# Altium integrated library Linear Technology Power Management PMIC Multifunction.IntLib: 360 symbols (part 41 of 42)
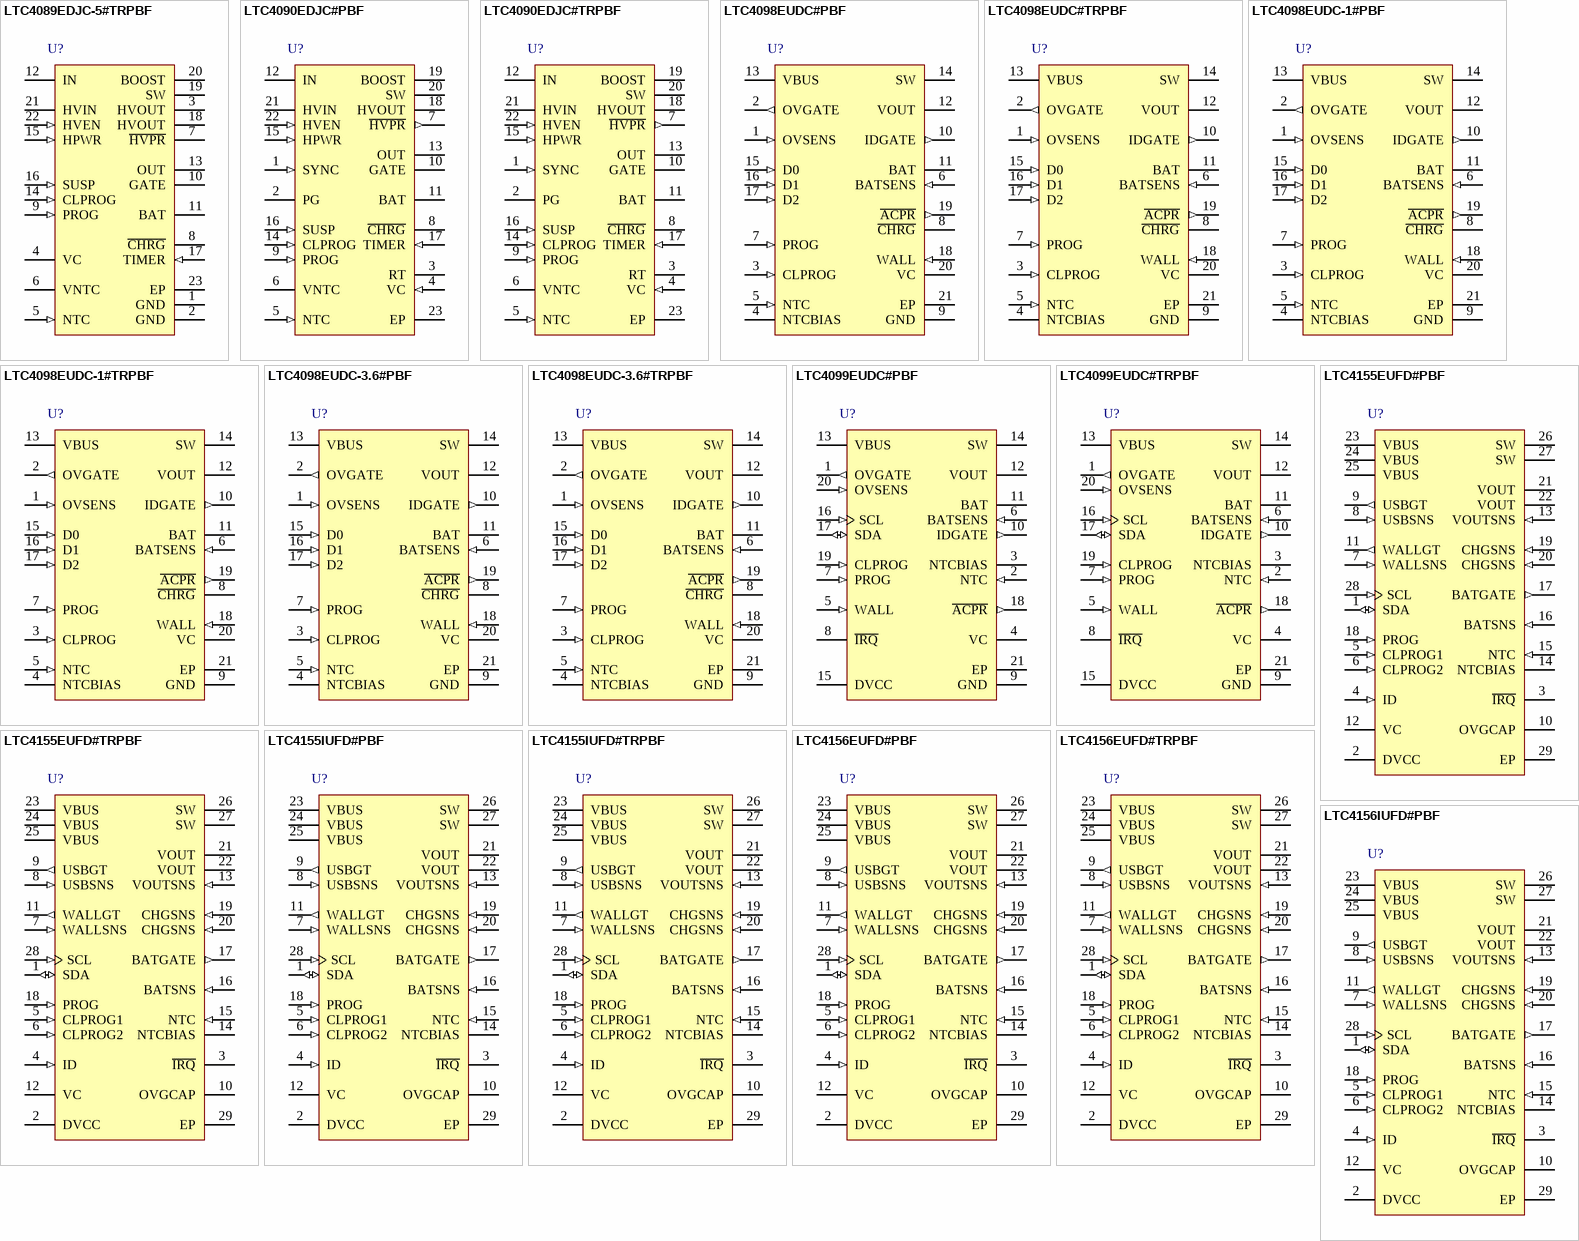
[diagram p58: symbols LTC4089EDJC-5#TRPBF to LTC4156IUFD#PBF]

## LTC4155IUFD#TRPBF
designator U?
Dual Input Power Manager / 3.5 A Li-Ion Battery Charger with I2C Control and USB OTG, 4.35 to 5.5 V Vin, 28-pin QFN (UFD-28), -40 to 125 degC, Pb-Free, Tape and Reel; Manufacturer: Linear Technology; PartNumber: LTC4155IUFD#TRPBF; Number of Cells: 1; Number of Outputs: 2; Vin Max(V): 5.5; Vin Min(V): 4.35; DatasheetVersion: Rev. C; PackageVersion: Rev. B, 06/2010; PackageReference: UFD-28; PackageDescription: 28-Pin Plastic QFN, Body 5 x 4 mm, Pitch 0.5 mm; Supplier 1: Digi-Key; Supplier Part Number 1: LTC4155IUFD#TRPBF-ND; Packing: Tape and Reel; RoHS: TRUE; Mounting Technology: Surface Mount; Code_JEDEC: MO-220; ComponentLink1Description: Manufacturer URL; ComponentLink1URL: http://www.linear.com/; ComponentLink2Description: Datasheet; ComponentLink2URL: http://cds.linear.com/docs/en/datasheet/4155fc.pdf; ComponentLink3Description: Package Specification; ComponentLink3URL: http://cds.linear.com/docs/en/packaging/QFN_28_05-08-1712.pdf
footprint LT-UFD-28_N (QFN, 28-Leads, Body 5.1x4.1mm, Pitch 0.5mm, Thermal Pad 3.65x2.65mm, IPC Medium Density)
footprint LT-UFD-28_L (QFN, 28-Leads, Body 5.1x4.1mm, Pitch 0.5mm, Thermal Pad 3.65x2.65mm, IPC High Density)
footprint LT-UFD-28_M (QFN, 28-Leads, Body 5.1x4.1mm, Pitch 0.5mm, Thermal Pad 3.65x2.65mm, IPC Low Density)
pins: 1 SDA (io) "Data Input/Output for the I2C Serial Port. The I2C input levels are scaled with respect to DVCC for I2C compliance.", 2 DVCC (power) "Logic Supply for the I2C Serial Port. DVCC sets the reference level of the SDA and SCL pins for I2C compliance. It should be connected to the same power supply used to power the I2C pull-up resistors.", 3 ~{IRQ} (oc) "Open-Drain Interrupt Output. The I\R\Q\ pin can be used to generate an interrupt due to a variety of maskable status change events within the LTC4155.", 4 ID (in) "USB A-Device Detection Pin. When wired to a mini- or micro-USB connector, the ID pin detects when the “A” side of a mini or micro-USB cable is connected to the product. If the ID pin is pulled down, and (See Datasheet)", 5 CLPROG1 (in) "Primary VBUS Current Limit Programming Pin. A resistor from CLPROG1 to ground determines the upper limit of the current drawn from the VBUS pin when CLPROG1 is selected. A precise measure of VBUS current, hCLPROG1 -1, is (See Datasheet)", 6 CLPROG2 (in) "Secondary VBUS Current Limit Program Pin. CLPROG2 controls the VBUS current limit when either selected via I2C command or when CLPROG1 and CLPROG2 are shorted together. When selected, a resistor from CLPROG2 to ground (See Datasheet)", 7 WALLSNS (in) "Highest Priority Multiplexer Input and Overvoltage Protection Sense Input. WALLSNS should be connected through a 3.6k resistor to a high priority input power connector and one drain of two source-connected N-channel MOSFET (See Datasheet)", 8 USBSNS (in) "Lowest Priority Multiplexer Input and Overvoltage Protection Sense Input. USBSNS should be connected through a 3.6k resistor to a low priority input power connector and one drain of two source-connected N-channel MOSFET pass (See Datasheet)", 9 USBGT (out) "Overvoltage Protection and Priority Multiplexer Gate Output. Connect USBGT to the gate pins of two source-connected external N-channel MOSFET pass transistors. One drain of the transistors should be connected to VBUS and the (See Datasheet)", 10 OVGCAP "Overvoltage Protection Capacitor Output. A 0.1uF capacitor should be connected from OVGCAP to GND. OVGCAP is used to store charge so that it can be rapidly moved to WALLGT or USBGT. This feature provides faster power (See Datasheet)", 11 WALLGT (out) "Overvoltage Protection and Priority Multiplexer Gate Output. Connect WALLGT to the gate pins of two source-connected external N-channel MOSFET pass transistors. One drain of the transistors should be connected to VBUS and (See Datasheet)", 12 VC "Compensation Pin. A 0.047uF ceramic capacitor on this pin compensates the switching regulator control loops.", 13 VOUTSNS (in) "Output Voltage Sense Input. Connecting VOUTSNS directly to the VOUT bypass capacitor ensures that VOUT regulates at the correct level.", 14 NTCBIAS "NTC Thermistor Bias Output. Connect a bias resistor between NTCBIAS and NTC, and a thermistor between NTC and GND. The value of the bias resistor should usually be equal to the nominal value of the thermistor.", 15 NTC (in) "Input to the Negative Temperature Coefficient Thermistor Monitoring Circuit. The NTC pin connects to a negative temperature coefficient thermistor, which is typically copackaged with the battery, to determine if the battery (See Datasheet)", 16 BATSNS (in) "Battery Voltage Sense Input. For proper operation, this pin must always be connected to the battery. For fastest charging, connect BATSNS physically close to the Lithium-Ion cell’s positive terminal. Depending upo(See Datasheet)", 17 BATGATE (out) "Battery Charger and Ideal Diode Amplifier Control Output. This pin controls the gate of an external P-channel MOSFET transistor used to charge the Lithium-Ion cell and to provide power to VOUT when the system load exceeds (See Datasheet)", 18 PROG (in) "Charge Current Program and Monitor Pin. A resistor from PROG to GND programs the maximum battery charge rate. The LTC4155 features I2C programmability enabling software selection of fifteen charge currents that are inversely (See Datasheet)", 19 CHGSNS (in) "Battery Charger Current Sense Pin. An internal current sense resistor between VOUT and CHGSNS monitors battery charge current. CHGSNS should be connected to the source of an external P-channel MOSFET transistor.", 20 CHGSNS (in) "Battery Charger Current Sense Pin. An internal current sense resistor between VOUT and CHGSNS monitors battery charge current. CHGSNS should be connected to the source of an external P-channel MOSFET transistor.", 21 VOUT (power) "Output Voltage of the Switching PowerPath Controller and Input Voltage of the Battery Charging System. The majority of the portable product should be powered from VOUT. The LTC4155 will partition the available power between (See Datasheet)", 22 VOUT (power) "Output Voltage of the Switching PowerPath Controller and Input Voltage of the Battery Charging System. The majority of the portable product should be powered from VOUT. The LTC4155 will partition the available power between (See Datasheet)", 23 VBUS (power) "Input Voltage for the PowerPath Step-Down Switching Regulator and Output Voltage for the USB On-The-Go Step-Up Switching Regulator. VBUS may be connected to the USB port of a computer or a DC output wall adapter or to one or (See Datasheet)", 24 VBUS (power) "Input Voltage for the PowerPath Step-Down Switching Regulator and Output Voltage for the USB On-The-Go Step-Up Switching Regulator. VBUS may be connected to the USB port of a computer or a DC output wall adapter or to one or (See Datasheet)", 25 VBUS (power) "Input Voltage for the PowerPath Step-Down Switching Regulator and Output Voltage for the USB On-The-Go Step-Up Switching Regulator. VBUS may be connected to the USB port of a computer or a DC output wall adapter or to one or (See Datasheet)", 26 SW (power) "Switching Regulator Power Transmission Pin. The SW pin delivers power from VBUS to VOUT via the step-down switching regulator and from VOUT to VBUS via the step-up switching regulator. A 1uH inductor should be connected from (See Datasheet)", 27 SW (power) "Switching Regulator Power Transmission Pin. The SW pin delivers power from VBUS to VOUT via the step-down switching regulator and from VOUT to VBUS via the step-up switching regulator. A 1uH inductor should be connected from (See Datasheet)", 28 SCL (in) "Clock Input for the I2C Serial Port. The I2C input levels are scaled with respect to DVCC for I2C compliance.", 29 EP (power) "Exposed pad must be soldered to the PCB to provide a low electrical and thermal impedance connection to the printed circuit board’s ground. A continuous ground plane on the second layer of a multilayer printed circui(See Datasheet)"

## LTC4156EUFD#PBF
designator U?
Dual-Input Power Manager / 3.5 A LiFePO4 Battery Charger with I2C Control and USB OTG, 4.35 to 5.5 V Vin, 28-pin QFN (UFD-28), -40 to 125 degC, Pb-Free; Manufacturer: Linear Technology; PartNumber: LTC4156EUFD#PBF; Number of Cells: 1; Vin Max(V): 5.5; Vin Min(V): 4.35; PackageVersion: Rev. B, 06/2010; PackageReference: UFD-28; PackageDescription: 28-Pin Plastic QFN, Body 5 x 4 mm, Pitch 0.5 mm; Supplier 1: Digi-Key; Supplier Part Number 1: LTC4156EUFD#PBF-ND; Supplier 2: Farnell; Supplier Part Number 2: 2097962; Supplier 3: Newark; Supplier Part Number 3: 87T9233; Number of Outputs: 1; RoHS: TRUE; Mounting Technology: Surface Mount; Code_JEDEC: MO-220; ComponentLink1Description: Manufacturer URL; ComponentLink1URL: http://www.linear.com/; ComponentLink2Description: Datasheet; ComponentLink2URL: http://cds.linear.com/docs/en/datasheet/4156f.pdf; ComponentLink3Description: Package Specification; ComponentLink3URL: http://cds.linear.com/docs/en/packaging/QFN_28_05-08-1712.pdf
footprint LT-UFD-28_N (QFN, 28-Leads, Body 5.1x4.1mm, Pitch 0.5mm, Thermal Pad 3.65x2.65mm, IPC Medium Density)
footprint LT-UFD-28_L (QFN, 28-Leads, Body 5.1x4.1mm, Pitch 0.5mm, Thermal Pad 3.65x2.65mm, IPC High Density)
footprint LT-UFD-28_M (QFN, 28-Leads, Body 5.1x4.1mm, Pitch 0.5mm, Thermal Pad 3.65x2.65mm, IPC Low Density)
pins: 1 SDA (io) "Data Input/Output for the I2C Serial Port. The I2C input levels are scaled with respect to DVCC for I2C compliance.", 2 DVCC (power) "Logic Supply for the I2C Serial Port.", 3 ~{IRQ} (oc) "Open-Drain Interrupt Output. The I\R\Q\ pin can be used to generate an interrupt due to a variety of maskable status change events within the LTC4156.", 4 ID (in) "USB A-Device Detection Pin.", 5 CLPROG1 (in) "Primary VBUS Current Limit Programming Pin.", 6 CLPROG2 (in) "Secondary VBUS Current Limit Program Pin.", 7 WALLSNS (in) "Highest Priority Multiplexer Input and Overvoltage Protection Sense Input.", 8 USBSNS (in) "Lowest Priority Multiplexer Input and Overvoltage Protection Sense Input.", 9 USBGT (out) "Overvoltage Protection and Priority Multiplexer Gate Output.", 10 OVGCAP "Overvoltage Protection Capacitor Output.", 11 WALLGT (out) "Overvoltage Protection and Priority Multiplexer Gate Output.", 12 VC "Compensation Pin. A 0.047uF ceramic capacitor on this pin compensates the switching regulator control loops.", 13 VOUTSNS (in) "Output Voltage Sense Input. Connecting VOUTSNS directly to the VOUT bypass capacitor ensures that VOUT regulates at the correct level.", 14 NTCBIAS "NTC Thermistor Bias Output. Connect a bias resistor between NTCBIAS and NTC, and a thermistor between NTC and GND. The value of the bias resistor should usually be equal to the nominal value of the thermistor.", 15 NTC (in) "Input to the Negative Temperature Coefficient Thermistor Monitoring Circuit.", 16 BATSNS (in) "Battery Voltage Sense Input. For proper operation, this pin must always be connected to the battery.", 17 BATGATE (out) "Battery Charger and Ideal Diode Amplifier Control Output.", 18 PROG (in) "Charge Current Program and Monitor Pin. A resistor from PROG to GND programs the maximum battery charge rate.", 19 CHGSNS (in) "Battery Charger Current Sense Pin.", 20 CHGSNS (in) "Battery Charger Current Sense Pin.", 21 VOUT (power) "Output Voltage of the Switching PowerPath Controller and Input Voltage of the Battery Charging System.", 22 VOUT (power) "Output Voltage of the Switching PowerPath Controller and Input Voltage of the Battery Charging System.", 23 VBUS (power) "Input Voltage for the PowerPath Step-Down Switching Regulator and Output Voltage for the USB On-The-Go Step-Up Switching Regulator.", 24 VBUS (power) "Input Voltage for the PowerPath Step-Down Switching Regulator and Output Voltage for the USB On-The-Go Step-Up Switching Regulator.", 25 VBUS (power) "Input Voltage for the PowerPath Step-Down Switching Regulator and Output Voltage for the USB On-The-Go Step-Up Switching Regulator.", 26 SW (power) "Switching Regulator Power Transmission Pin.", 27 SW (power) "Switching Regulator Power Transmission Pin.", 28 SCL (in) "Clock Input for the I2C Serial Port. The I2C input levels are scaled with respect to DVCC for I2C compliance.", 29 EP (power) "The exposed pad must be soldered to the PCB to provide a low electrical and thermal impedance connection to the printed circuit board’s ground. A continuous ground plane on the second layer of a multilayer printed circui(See Datasheet)"

## LTC4156EUFD#TRPBF
designator U?
Dual-Input Power Manager / 3.5 A LiFePO4 Battery Charger with I2C Control and USB OTG, 4.35 to 5.5 V Vin, 28-pin QFN (UFD-28), -40 to 125 degC, Pb-Free, Tape and Reel; Manufacturer: Linear Technology; PartNumber: LTC4156EUFD#TRPBF; Number of Cells: 1; Vin Max(V): 5.5; Vin Min(V): 4.35; PackageVersion: Rev. B, 06/2010; PackageReference: UFD-28; PackageDescription: 28-Pin Plastic QFN, Body 5 x 4 mm, Pitch 0.5 mm; Supplier 1: Digi-Key; Supplier Part Number 1: LTC4156EUFD#TRPBF-ND; Number of Outputs: 1; Packing: Tape and Reel; RoHS: TRUE; Mounting Technology: Surface Mount; Code_JEDEC: MO-220; ComponentLink1Description: Manufacturer URL; ComponentLink1URL: http://www.linear.com/; ComponentLink2Description: Datasheet; ComponentLink2URL: http://cds.linear.com/docs/en/datasheet/4156f.pdf; ComponentLink3Description: Package Specification; ComponentLink3URL: http://cds.linear.com/docs/en/packaging/QFN_28_05-08-1712.pdf
footprint LT-UFD-28_N (QFN, 28-Leads, Body 5.1x4.1mm, Pitch 0.5mm, Thermal Pad 3.65x2.65mm, IPC Medium Density)
footprint LT-UFD-28_L (QFN, 28-Leads, Body 5.1x4.1mm, Pitch 0.5mm, Thermal Pad 3.65x2.65mm, IPC High Density)
footprint LT-UFD-28_M (QFN, 28-Leads, Body 5.1x4.1mm, Pitch 0.5mm, Thermal Pad 3.65x2.65mm, IPC Low Density)
pins: 1 SDA (io) "Data Input/Output for the I2C Serial Port. The I2C input levels are scaled with respect to DVCC for I2C compliance.", 2 DVCC (power) "Logic Supply for the I2C Serial Port.", 3 ~{IRQ} (oc) "Open-Drain Interrupt Output. The I\R\Q\ pin can be used to generate an interrupt due to a variety of maskable status change events within the LTC4156.", 4 ID (in) "USB A-Device Detection Pin.", 5 CLPROG1 (in) "Primary VBUS Current Limit Programming Pin.", 6 CLPROG2 (in) "Secondary VBUS Current Limit Program Pin.", 7 WALLSNS (in) "Highest Priority Multiplexer Input and Overvoltage Protection Sense Input.", 8 USBSNS (in) "Lowest Priority Multiplexer Input and Overvoltage Protection Sense Input.", 9 USBGT (out) "Overvoltage Protection and Priority Multiplexer Gate Output.", 10 OVGCAP "Overvoltage Protection Capacitor Output.", 11 WALLGT (out) "Overvoltage Protection and Priority Multiplexer Gate Output.", 12 VC "Compensation Pin. A 0.047uF ceramic capacitor on this pin compensates the switching regulator control loops.", 13 VOUTSNS (in) "Output Voltage Sense Input. Connecting VOUTSNS directly to the VOUT bypass capacitor ensures that VOUT regulates at the correct level.", 14 NTCBIAS "NTC Thermistor Bias Output. Connect a bias resistor between NTCBIAS and NTC, and a thermistor between NTC and GND. The value of the bias resistor should usually be equal to the nominal value of the thermistor.", 15 NTC (in) "Input to the Negative Temperature Coefficient Thermistor Monitoring Circuit.", 16 BATSNS (in) "Battery Voltage Sense Input. For proper operation, this pin must always be connected to the battery.", 17 BATGATE (out) "Battery Charger and Ideal Diode Amplifier Control Output.", 18 PROG (in) "Charge Current Program and Monitor Pin. A resistor from PROG to GND programs the maximum battery charge rate.", 19 CHGSNS (in) "Battery Charger Current Sense Pin.", 20 CHGSNS (in) "Battery Charger Current Sense Pin.", 21 VOUT (power) "Output Voltage of the Switching PowerPath Controller and Input Voltage of the Battery Charging System.", 22 VOUT (power) "Output Voltage of the Switching PowerPath Controller and Input Voltage of the Battery Charging System.", 23 VBUS (power) "Input Voltage for the PowerPath Step-Down Switching Regulator and Output Voltage for the USB On-The-Go Step-Up Switching Regulator.", 24 VBUS (power) "Input Voltage for the PowerPath Step-Down Switching Regulator and Output Voltage for the USB On-The-Go Step-Up Switching Regulator.", 25 VBUS (power) "Input Voltage for the PowerPath Step-Down Switching Regulator and Output Voltage for the USB On-The-Go Step-Up Switching Regulator.", 26 SW (power) "Switching Regulator Power Transmission Pin.", 27 SW (power) "Switching Regulator Power Transmission Pin.", 28 SCL (in) "Clock Input for the I2C Serial Port. The I2C input levels are scaled with respect to DVCC for I2C compliance.", 29 EP (power) "The exposed pad must be soldered to the PCB to provide a low electrical and thermal impedance connection to the printed circuit board’s ground. A continuous ground plane on the second layer of a multilayer printed circui(See Datasheet)"

## LTC4156IUFD#PBF
designator U?
Dual-Input Power Manager / 3.5 A LiFePO4 Battery Charger with I2C Control and USB OTG, 4.35 to 5.5 V Vin, 28-pin QFN (UFD-28), -40 to 125 degC, Pb-Free; Manufacturer: Linear Technology; PartNumber: LTC4156IUFD#PBF; Number of Cells: 1; Vin Max(V): 5.5; Vin Min(V): 4.35; PackageVersion: Rev. B, 06/2010; PackageReference: UFD-28; PackageDescription: 28-Pin Plastic QFN, Body 5 x 4 mm, Pitch 0.5 mm; Supplier 1: Digi-Key; Supplier Part Number 1: LTC4156IUFD#PBF-ND; Supplier 2: Farnell; Supplier Part Number 2: 2097963; Supplier 3: Newark; Supplier Part Number 3: 87T9235; Number of Outputs: 1; RoHS: TRUE; Mounting Technology: Surface Mount; Code_JEDEC: MO-220; ComponentLink1Description: Manufacturer URL; ComponentLink1URL: http://www.linear.com/; ComponentLink2Description: Datasheet; ComponentLink2URL: http://cds.linear.com/docs/en/datasheet/4156f.pdf; ComponentLink3Description: Package Specification; ComponentLink3URL: http://cds.linear.com/docs/en/packaging/QFN_28_05-08-1712.pdf
footprint LT-UFD-28_N (QFN, 28-Leads, Body 5.1x4.1mm, Pitch 0.5mm, Thermal Pad 3.65x2.65mm, IPC Medium Density)
footprint LT-UFD-28_L (QFN, 28-Leads, Body 5.1x4.1mm, Pitch 0.5mm, Thermal Pad 3.65x2.65mm, IPC High Density)
footprint LT-UFD-28_M (QFN, 28-Leads, Body 5.1x4.1mm, Pitch 0.5mm, Thermal Pad 3.65x2.65mm, IPC Low Density)
pins: 1 SDA (io) "Data Input/Output for the I2C Serial Port. The I2C input levels are scaled with respect to DVCC for I2C compliance.", 2 DVCC (power) "Logic Supply for the I2C Serial Port.", 3 ~{IRQ} (oc) "Open-Drain Interrupt Output. The I\R\Q\ pin can be used to generate an interrupt due to a variety of maskable status change events within the LTC4156.", 4 ID (in) "USB A-Device Detection Pin.", 5 CLPROG1 (in) "Primary VBUS Current Limit Programming Pin.", 6 CLPROG2 (in) "Secondary VBUS Current Limit Program Pin.", 7 WALLSNS (in) "Highest Priority Multiplexer Input and Overvoltage Protection Sense Input.", 8 USBSNS (in) "Lowest Priority Multiplexer Input and Overvoltage Protection Sense Input.", 9 USBGT (out) "Overvoltage Protection and Priority Multiplexer Gate Output.", 10 OVGCAP "Overvoltage Protection Capacitor Output.", 11 WALLGT (out) "Overvoltage Protection and Priority Multiplexer Gate Output.", 12 VC "Compensation Pin. A 0.047uF ceramic capacitor on this pin compensates the switching regulator control loops.", 13 VOUTSNS (in) "Output Voltage Sense Input. Connecting VOUTSNS directly to the VOUT bypass capacitor ensures that VOUT regulates at the correct level.", 14 NTCBIAS "NTC Thermistor Bias Output. Connect a bias resistor between NTCBIAS and NTC, and a thermistor between NTC and GND. The value of the bias resistor should usually be equal to the nominal value of the thermistor.", 15 NTC (in) "Input to the Negative Temperature Coefficient Thermistor Monitoring Circuit.", 16 BATSNS (in) "Battery Voltage Sense Input. For proper operation, this pin must always be connected to the battery.", 17 BATGATE (out) "Battery Charger and Ideal Diode Amplifier Control Output.", 18 PROG (in) "Charge Current Program and Monitor Pin. A resistor from PROG to GND programs the maximum battery charge rate.", 19 CHGSNS (in) "Battery Charger Current Sense Pin.", 20 CHGSNS (in) "Battery Charger Current Sense Pin.", 21 VOUT (power) "Output Voltage of the Switching PowerPath Controller and Input Voltage of the Battery Charging System.", 22 VOUT (power) "Output Voltage of the Switching PowerPath Controller and Input Voltage of the Battery Charging System.", 23 VBUS (power) "Input Voltage for the PowerPath Step-Down Switching Regulator and Output Voltage for the USB On-The-Go Step-Up Switching Regulator.", 24 VBUS (power) "Input Voltage for the PowerPath Step-Down Switching Regulator and Output Voltage for the USB On-The-Go Step-Up Switching Regulator.", 25 VBUS (power) "Input Voltage for the PowerPath Step-Down Switching Regulator and Output Voltage for the USB On-The-Go Step-Up Switching Regulator.", 26 SW (power) "Switching Regulator Power Transmission Pin.", 27 SW (power) "Switching Regulator Power Transmission Pin.", 28 SCL (in) "Clock Input for the I2C Serial Port. The I2C input levels are scaled with respect to DVCC for I2C compliance.", 29 EP (power) "The exposed pad must be soldered to the PCB to provide a low electrical and thermal impedance connection to the printed circuit board’s ground. A continuous ground plane on the second layer of a multilayer printed circui(See Datasheet)"

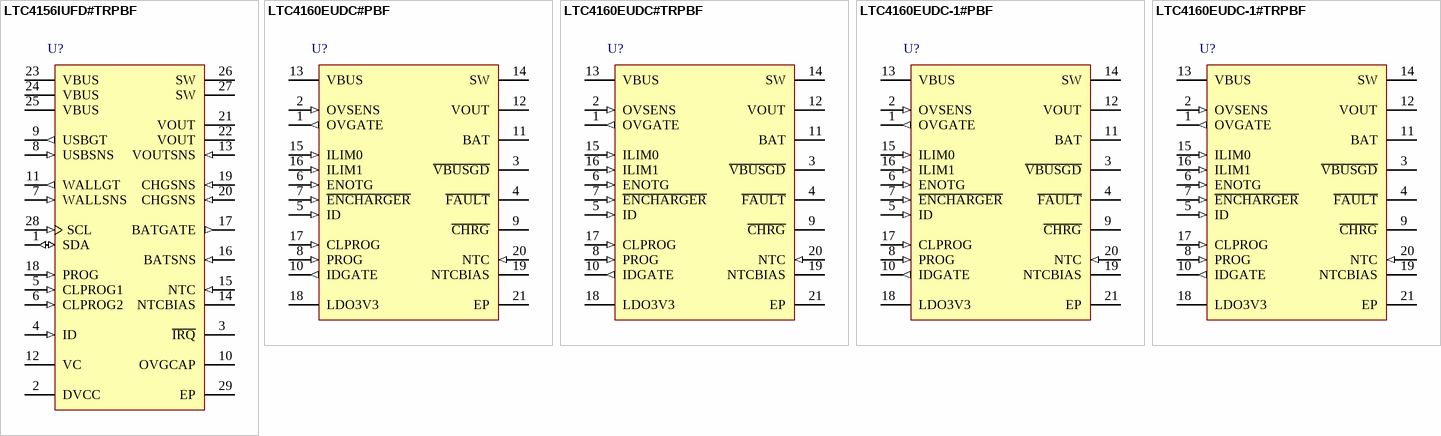
[diagram p18: symbols LTC4156IUFD#TRPBF to LTC4160EUDC-1#TRPBF]

## LTC4156IUFD#TRPBF
designator U?
Dual-Input Power Manager / 3.5 A LiFePO4 Battery Charger with I2C Control and USB OTG, 4.35 to 5.5 V Vin, 28-pin QFN (UFD-28), -40 to 125 degC, Pb-Free, Tape and Reel; Manufacturer: Linear Technology; PartNumber: LTC4156IUFD#TRPBF; Number of Cells: 1; Vin Max(V): 5.5; Vin Min(V): 4.35; PackageVersion: Rev. B, 06/2010; PackageReference: UFD-28; PackageDescription: 28-Pin Plastic QFN, Body 5 x 4 mm, Pitch 0.5 mm; Supplier 1: Digi-Key; Supplier Part Number 1: LTC4156IUFD#TRPBF-ND; Number of Outputs: 1; Packing: Tape and Reel; RoHS: TRUE; Mounting Technology: Surface Mount; Code_JEDEC: MO-220; ComponentLink1Description: Manufacturer URL; ComponentLink1URL: http://www.linear.com/; ComponentLink2Description: Datasheet; ComponentLink2URL: http://cds.linear.com/docs/en/datasheet/4156f.pdf; ComponentLink3Description: Package Specification; ComponentLink3URL: http://cds.linear.com/docs/en/packaging/QFN_28_05-08-1712.pdf
footprint LT-UFD-28_N (QFN, 28-Leads, Body 5.1x4.1mm, Pitch 0.5mm, Thermal Pad 3.65x2.65mm, IPC Medium Density)
footprint LT-UFD-28_L (QFN, 28-Leads, Body 5.1x4.1mm, Pitch 0.5mm, Thermal Pad 3.65x2.65mm, IPC High Density)
footprint LT-UFD-28_M (QFN, 28-Leads, Body 5.1x4.1mm, Pitch 0.5mm, Thermal Pad 3.65x2.65mm, IPC Low Density)
pins: 1 SDA (io) "Data Input/Output for the I2C Serial Port. The I2C input levels are scaled with respect to DVCC for I2C compliance.", 2 DVCC (power) "Logic Supply for the I2C Serial Port.", 3 ~{IRQ} (oc) "Open-Drain Interrupt Output. The I\R\Q\ pin can be used to generate an interrupt due to a variety of maskable status change events within the LTC4156.", 4 ID (in) "USB A-Device Detection Pin.", 5 CLPROG1 (in) "Primary VBUS Current Limit Programming Pin.", 6 CLPROG2 (in) "Secondary VBUS Current Limit Program Pin.", 7 WALLSNS (in) "Highest Priority Multiplexer Input and Overvoltage Protection Sense Input.", 8 USBSNS (in) "Lowest Priority Multiplexer Input and Overvoltage Protection Sense Input.", 9 USBGT (out) "Overvoltage Protection and Priority Multiplexer Gate Output.", 10 OVGCAP "Overvoltage Protection Capacitor Output.", 11 WALLGT (out) "Overvoltage Protection and Priority Multiplexer Gate Output.", 12 VC "Compensation Pin. A 0.047uF ceramic capacitor on this pin compensates the switching regulator control loops.", 13 VOUTSNS (in) "Output Voltage Sense Input. Connecting VOUTSNS directly to the VOUT bypass capacitor ensures that VOUT regulates at the correct level.", 14 NTCBIAS "NTC Thermistor Bias Output. Connect a bias resistor between NTCBIAS and NTC, and a thermistor between NTC and GND. The value of the bias resistor should usually be equal to the nominal value of the thermistor.", 15 NTC (in) "Input to the Negative Temperature Coefficient Thermistor Monitoring Circuit.", 16 BATSNS (in) "Battery Voltage Sense Input. For proper operation, this pin must always be connected to the battery.", 17 BATGATE (out) "Battery Charger and Ideal Diode Amplifier Control Output.", 18 PROG (in) "Charge Current Program and Monitor Pin. A resistor from PROG to GND programs the maximum battery charge rate.", 19 CHGSNS (in) "Battery Charger Current Sense Pin.", 20 CHGSNS (in) "Battery Charger Current Sense Pin.", 21 VOUT (power) "Output Voltage of the Switching PowerPath Controller and Input Voltage of the Battery Charging System.", 22 VOUT (power) "Output Voltage of the Switching PowerPath Controller and Input Voltage of the Battery Charging System.", 23 VBUS (power) "Input Voltage for the PowerPath Step-Down Switching Regulator and Output Voltage for the USB On-The-Go Step-Up Switching Regulator.", 24 VBUS (power) "Input Voltage for the PowerPath Step-Down Switching Regulator and Output Voltage for the USB On-The-Go Step-Up Switching Regulator.", 25 VBUS (power) "Input Voltage for the PowerPath Step-Down Switching Regulator and Output Voltage for the USB On-The-Go Step-Up Switching Regulator.", 26 SW (power) "Switching Regulator Power Transmission Pin.", 27 SW (power) "Switching Regulator Power Transmission Pin.", 28 SCL (in) "Clock Input for the I2C Serial Port. The I2C input levels are scaled with respect to DVCC for I2C compliance.", 29 EP (power) "The exposed pad must be soldered to the PCB to provide a low electrical and thermal impedance connection to the printed circuit board’s ground. A continuous ground plane on the second layer of a multilayer printed circui(See Datasheet)"

## LTC4160EUDC#PBF
designator U?
Switching Power Manager with USB On-The-Go And Overvoltage Protection, 4.35 to 5.5 V Vin, 20-pin QFN (UDC-20), -40 to 85 degC, Pb-Free; Manufacturer: Linear Technology; PartNumber: LTC4160EUDC#PBF; Number of Cells: 1; Vin Max(V): 5.5; Vin Min(V): 4.35; DatasheetVersion: Rev. A; PackageVersion: Rev. Ø, 06/2010; PackageReference: UDC20; PackageDescription: 20-Pin Plastic QFN, Body 3 x 4 mm, Pitch 0.5 mm; Supplier 1: Digi-Key; Supplier Part Number 1: LTC4160EUDC#PBF-ND; Supplier 2: Farnell; Supplier Part Number 2: 1868075; Supplier 3: Newark; Supplier Part Number 3: 13T8418; Number of Outputs: 1; RoHS: TRUE; Mounting Technology: Surface Mount; ComponentLink1Description: Manufacturer URL; ComponentLink1URL: http://www.linear.com/; ComponentLink2Description: Datasheet; ComponentLink2URL: http://cds.linear.com/docs/en/datasheet/41601fa.pdf; ComponentLink3Description: Package Specification; ComponentLink3URL: http://cds.linear.com/docs/en/packaging/QFN_20_05-08-1742.pdf
footprint LT-UDC-20_N (QFN, 20-Leads, Body 4.1x3.1mm, Pitch 0.5mm, Thermal Pad 2.65x1.65mm, IPC Medium Density)
footprint LT-UDC-20_L (QFN, 20-Leads, Body 4.1x3.1mm, Pitch 0.5mm, Thermal Pad 2.65x1.65mm, IPC High Density)
footprint LT-UDC-20_M (QFN, 20-Leads, Body 4.1x3.1mm, Pitch 0.5mm, Thermal Pad 2.65x1.65mm, IPC Low Density)
pins: 1 OVGATE (out) "Overvoltage Protection Gate Output. Connect OVGATE to the gate pin of an external N-channel MOSFET. The source of the transistor should be connected to VBUS and the drain should be connected to the product’s DC inpu(See Datasheet)", 2 OVSENS (in) "Overvoltage Protection Sense Input. OVSENS should be connected through a 6.2k resistor to the input power connector and the drain of an external N-channel MOSFET. When the voltage on this pin exceeds VOVCUTOFF, the OVGATE (See Datasheet)", 3 ~{VBUSGD} (oc) "Logic Output. This is an open-drain output which indicates that VBUS is above VUVLO and VDUVLO. V\B\U\S\G\D\ requires a pull-up resistor and/or LED to provide indication.", 4 ~{FAULT} (oc) "Logic Output. This in an open-drain output which indicates a bad battery fault when the charger is enabled or a short circuit condition on VBUS when the bidirectional PowerPath switching regulator is in step-up mode (See Datasheet)", 5 ID (in) "Logic Input. This pin independently enables the bidirectional switching regulator to step-up the voltage on VOUT and provide a 5V output on the VBUS pin for USB On-The-Go applications. If the host does not power down VBUS (See Datasheet)", 6 ENOTG (in) "Logic Input. This pin independently enables the bidirectional switching regulator to step-up the voltage on VOUT and provide a 5V output on the VBUS pin for USB On-The-Go applications. Active high. Has an internal 1.8uA (See Datasheet)", 7 ~{ENCHARGER} (in) "Logic Input. This pin enables the battery charger. Active low. Has an internal 1.8uA pulldown current source.", 8 PROG (in) "Charge Current Program and Charge Current Monitor Pin. Connecting a 1% resistor from PROG to ground, programs the charge current. If sufficient input power is available in constant-current mode, this pin servos to 1V.", 9 ~{CHRG} (oc) "Logic Output. This is an open-drain output that indicates whether the battery is charging or not charging. C\H\R\G\ requires a pull-up resistor and/or LED to provide indication.", 10 IDGATE (out) "Ideal Diode Amplifier Output. This pin controls the gate of an optional external P-channel MOSFET used as an ideal diode between VOUT and BAT. The external ideal diode operates in parallel with the internal ideal diode. The (See Datasheet)", 11 BAT (power) "Single Cell Li-Ion Battery Pin. Depending on available VBUS power, a Li-Ion battery on BAT will either deliver power to VOUT through the ideal diode or be charged from VOUT via the battery charger.", 12 VOUT (power) "Output Voltage of the Bidirectional Power- Path Switching Regulator in Step-Down Mode and Input Voltage of the Battery Charger. The majority of the portable product should be powered from VOUT. The LTC4160/ LTC4160-1 will (See Datasheet)", 13 VBUS (power) "Power Pin. This pin delivers power to VOUT via the SW pin by drawing controlled current from a DC source such as a USB port or DC output wall adapter. In On-The-Go mode this pin provides power to external loads. Bypass VBUS (See Datasheet)", 14 SW (power) "The SW pin transfers power between VBUS to VOUT via the bidirectional switching regulator. See the Applications Information section for a discussion of inductance value and current rating.", 15 ILIM0 (in) "ILIM0 and ILIM1 control the VBUS input current limit of the bidirectional PowerPath switching regulator in step-down mode. See Table 1. Each has an internal 1.8uA pull-down current source.", 16 ILIM1 (in) "ILIM0 and ILIM1 control the VBUS input current limit of the bidirectional PowerPath switching regulator in step-down mode. See Table 1. Each has an internal 1.8uA pull-down current source.", 17 CLPROG (in) "USB Current Limit Program and Monitor Pin. A 1% resistor from CLPROG to ground determines the upper limit of the current drawn or sourced from the VBUS pin. A precise fraction, hCLPROG, of the VBUS current is sent to the (See Datasheet)", 18 LDO3V3 (power) "3.3V LDO Output Pin. This pin provides a regulated always-on 3.3V supply voltage. LDO3V3 gets its power from VOUT. It may be used for light loads such as a watch dog microprocessor or real time clock. A 1uF capacitor is (See Datasheet)", 19 NTCBIAS "NTC Thermistor Bias Output. If NTC operation is desired, connect a bias resistor between NTCBIAS and NTC, and an NTC thermistor between NTC and GND. To disable NTC operation, connect NTC to GND and leave NTCBIAS open.", 20 NTC (in) "Input to the Thermistor Monitoring Circuits. The NTC pin connects to a negative temperature coefficient thermistor, which is typically co-packaged with the battery, to determine if the battery is too hot or too cold to (See Datasheet)", 21 EP (power) "Ground. The Exposed Pad should be connected to a continuous ground plane on the second layer of the printed circuit board by several vias directly under the LTC4160/LTC4160-1."

## LTC4160EUDC#TRPBF
designator U?
Switching Power Manager with USB On-The-Go And Overvoltage Protection, 4.35 to 5.5 V Vin, 20-pin QFN (UDC-20), -40 to 85 degC, Pb-Free, Tape and Reel; Manufacturer: Linear Technology; PartNumber: LTC4160EUDC#TRPBF; Number of Cells: 1; Vin Max(V): 5.5; Vin Min(V): 4.35; DatasheetVersion: Rev. A; PackageVersion: Rev. Ø, 06/2010; PackageReference: UDC20; PackageDescription: 20-Pin Plastic QFN, Body 3 x 4 mm, Pitch 0.5 mm; Supplier 1: Digi-Key; Supplier Part Number 1: LTC4160EUDC#TRPBF-ND; Number of Outputs: 1; Packing: Tape and Reel; RoHS: TRUE; Mounting Technology: Surface Mount; ComponentLink1Description: Manufacturer URL; ComponentLink1URL: http://www.linear.com/; ComponentLink2Description: Datasheet; ComponentLink2URL: http://cds.linear.com/docs/en/datasheet/41601fa.pdf; ComponentLink3Description: Package Specification; ComponentLink3URL: http://cds.linear.com/docs/en/packaging/QFN_20_05-08-1742.pdf
footprint LT-UDC-20_N (QFN, 20-Leads, Body 4.1x3.1mm, Pitch 0.5mm, Thermal Pad 2.65x1.65mm, IPC Medium Density)
footprint LT-UDC-20_L (QFN, 20-Leads, Body 4.1x3.1mm, Pitch 0.5mm, Thermal Pad 2.65x1.65mm, IPC High Density)
footprint LT-UDC-20_M (QFN, 20-Leads, Body 4.1x3.1mm, Pitch 0.5mm, Thermal Pad 2.65x1.65mm, IPC Low Density)
pins: 1 OVGATE (out) "Overvoltage Protection Gate Output. Connect OVGATE to the gate pin of an external N-channel MOSFET. The source of the transistor should be connected to VBUS and the drain should be connected to the product’s DC inpu(See Datasheet)", 2 OVSENS (in) "Overvoltage Protection Sense Input. OVSENS should be connected through a 6.2k resistor to the input power connector and the drain of an external N-channel MOSFET. When the voltage on this pin exceeds VOVCUTOFF, the OVGATE (See Datasheet)", 3 ~{VBUSGD} (oc) "Logic Output. This is an open-drain output which indicates that VBUS is above VUVLO and VDUVLO. V\B\U\S\G\D\ requires a pull-up resistor and/or LED to provide indication.", 4 ~{FAULT} (oc) "Logic Output. This in an open-drain output which indicates a bad battery fault when the charger is enabled or a short circuit condition on VBUS when the bidirectional PowerPath switching regulator is in step-up mode (See Datasheet)", 5 ID (in) "Logic Input. This pin independently enables the bidirectional switching regulator to step-up the voltage on VOUT and provide a 5V output on the VBUS pin for USB On-The-Go applications. If the host does not power down VBUS (See Datasheet)", 6 ENOTG (in) "Logic Input. This pin independently enables the bidirectional switching regulator to step-up the voltage on VOUT and provide a 5V output on the VBUS pin for USB On-The-Go applications. Active high. Has an internal 1.8uA (See Datasheet)", 7 ~{ENCHARGER} (in) "Logic Input. This pin enables the battery charger. Active low. Has an internal 1.8uA pulldown current source.", 8 PROG (in) "Charge Current Program and Charge Current Monitor Pin. Connecting a 1% resistor from PROG to ground, programs the charge current. If sufficient input power is available in constant-current mode, this pin servos to 1V.", 9 ~{CHRG} (oc) "Logic Output. This is an open-drain output that indicates whether the battery is charging or not charging. C\H\R\G\ requires a pull-up resistor and/or LED to provide indication.", 10 IDGATE (out) "Ideal Diode Amplifier Output. This pin controls the gate of an optional external P-channel MOSFET used as an ideal diode between VOUT and BAT. The external ideal diode operates in parallel with the internal ideal diode. The (See Datasheet)", 11 BAT (power) "Single Cell Li-Ion Battery Pin. Depending on available VBUS power, a Li-Ion battery on BAT will either deliver power to VOUT through the ideal diode or be charged from VOUT via the battery charger.", 12 VOUT (power) "Output Voltage of the Bidirectional Power- Path Switching Regulator in Step-Down Mode and Input Voltage of the Battery Charger. The majority of the portable product should be powered from VOUT. The LTC4160/ LTC4160-1 will (See Datasheet)", 13 VBUS (power) "Power Pin. This pin delivers power to VOUT via the SW pin by drawing controlled current from a DC source such as a USB port or DC output wall adapter. In On-The-Go mode this pin provides power to external loads. Bypass VBUS (See Datasheet)", 14 SW (power) "The SW pin transfers power between VBUS to VOUT via the bidirectional switching regulator. See the Applications Information section for a discussion of inductance value and current rating.", 15 ILIM0 (in) "ILIM0 and ILIM1 control the VBUS input current limit of the bidirectional PowerPath switching regulator in step-down mode. See Table 1. Each has an internal 1.8uA pull-down current source.", 16 ILIM1 (in) "ILIM0 and ILIM1 control the VBUS input current limit of the bidirectional PowerPath switching regulator in step-down mode. See Table 1. Each has an internal 1.8uA pull-down current source.", 17 CLPROG (in) "USB Current Limit Program and Monitor Pin. A 1% resistor from CLPROG to ground determines the upper limit of the current drawn or sourced from the VBUS pin. A precise fraction, hCLPROG, of the VBUS current is sent to the (See Datasheet)", 18 LDO3V3 (power) "3.3V LDO Output Pin. This pin provides a regulated always-on 3.3V supply voltage. LDO3V3 gets its power from VOUT. It may be used for light loads such as a watch dog microprocessor or real time clock. A 1uF capacitor is (See Datasheet)", 19 NTCBIAS "NTC Thermistor Bias Output. If NTC operation is desired, connect a bias resistor between NTCBIAS and NTC, and an NTC thermistor between NTC and GND. To disable NTC operation, connect NTC to GND and leave NTCBIAS open.", 20 NTC (in) "Input to the Thermistor Monitoring Circuits. The NTC pin connects to a negative temperature coefficient thermistor, which is typically co-packaged with the battery, to determine if the battery is too hot or too cold to (See Datasheet)", 21 EP (power) "Ground. The Exposed Pad should be connected to a continuous ground plane on the second layer of the printed circuit board by several vias directly under the LTC4160/LTC4160-1."

## LTC4160EUDC-1#PBF
designator U?
Switching Power Manager with USB On-The-Go And Overvoltage Protection, 4.35 to 5.5 V Vin, 20-pin QFN (UDC-20), -40 to 85 degC, Pb-Free; Manufacturer: Linear Technology; PartNumber: LTC4160EUDC-1#PBF; Number of Cells: 1; Vin Max(V): 5.5; Vin Min(V): 4.35; DatasheetVersion: Rev. A; PackageVersion: Rev. Ø, 06/2010; PackageReference: UDC20; PackageDescription: 20-Pin Plastic QFN, Body 3 x 4 mm, Pitch 0.5 mm; Supplier 1: Digi-Key; Supplier Part Number 1: LTC4160EUDC-1#PBF-ND; Supplier 2: Farnell; Supplier Part Number 2: 1868074; Supplier 3: Newark; Supplier Part Number 3: 13T8416; Number of Outputs: 1; RoHS: TRUE; Mounting Technology: Surface Mount; ComponentLink1Description: Manufacturer URL; ComponentLink1URL: http://www.linear.com/; ComponentLink2Description: Datasheet; ComponentLink2URL: http://cds.linear.com/docs/en/datasheet/41601fa.pdf; ComponentLink3Description: Package Specification; ComponentLink3URL: http://cds.linear.com/docs/en/packaging/QFN_20_05-08-1742.pdf
footprint LT-UDC-20_N (QFN, 20-Leads, Body 4.1x3.1mm, Pitch 0.5mm, Thermal Pad 2.65x1.65mm, IPC Medium Density)
footprint LT-UDC-20_L (QFN, 20-Leads, Body 4.1x3.1mm, Pitch 0.5mm, Thermal Pad 2.65x1.65mm, IPC High Density)
footprint LT-UDC-20_M (QFN, 20-Leads, Body 4.1x3.1mm, Pitch 0.5mm, Thermal Pad 2.65x1.65mm, IPC Low Density)
pins: 1 OVGATE (out) "Overvoltage Protection Gate Output. Connect OVGATE to the gate pin of an external N-channel MOSFET. The source of the transistor should be connected to VBUS and the drain should be connected to the product’s DC inpu(See Datasheet)", 2 OVSENS (in) "Overvoltage Protection Sense Input. OVSENS should be connected through a 6.2k resistor to the input power connector and the drain of an external N-channel MOSFET. When the voltage on this pin exceeds VOVCUTOFF, the OVGATE (See Datasheet)", 3 ~{VBUSGD} (oc) "Logic Output. This is an open-drain output which indicates that VBUS is above VUVLO and VDUVLO. V\B\U\G\D\ requires a pull-up resistor and/or LED to provide indication.", 4 ~{FAULT} (oc) "Logic Output. This in an open-drain output which indicates a bad battery fault when the charger is enabled or a short circuit condition on VBUS when the bidirectional PowerPath switching regulator is in step-up mode (See Datasheet)", 5 ID (in) "Logic Input. This pin independently enables the bidirectional switching regulator to step-up the voltage on VOUT and provide a 5V output on the VBUS pin for USB On-The-Go applications. If the host does not power down VBUS (See Datasheet)", 6 ENOTG (in) "Logic Input. This pin independently enables the bidirectional switching regulator to step-up the voltage on VOUT and provide a 5V output on the VBUS pin for USB On-The-Go applications. Active high. Has an internal 1.8uA (See Datasheet)", 7 ~{ENCHARGER} (in) "Logic Input. This pin enables the battery charger. Active low. Has an internal 1.8uA pulldown current source.", 8 PROG (in) "Charge Current Program and Charge Current Monitor Pin. Connecting a 1% resistor from PROG to ground, programs the charge current. If sufficient input power is available in constant-current mode, this pin servos to 1V. The (See Datasheet)", 9 ~{CHRG} (oc) "Logic Output. This is an open-drain output that indicates whether the battery is charging or not charging. C\H\R\G\ requires a pull-up resistor and/or LED to provide indication.", 10 IDGATE (out) "Ideal Diode Amplifier Output. This pin controls the gate of an optional external P-channel MOSFET used as an ideal diode between VOUT and BAT. The external ideal diode operates in parallel with the internal ideal diode. The (See Datasheet)", 11 BAT (power) "Single Cell Li-Ion Battery Pin. Depending on available VBUS power, a Li-Ion battery on BAT will either deliver power to VOUT through the ideal diode or be charged from VOUT via the battery charger.", 12 VOUT (power) "Output Voltage of the Bidirectional Power-Path Switching Regulator in Step-Down Mode and Input Voltage of the Battery Charger. The majority of the portable product should be powered from VOUT. The LTC4160/LTC4160-1 will (See Datasheet)", 13 VBUS (power) "Power Pin. This pin delivers power to VOUT via the SW pin by drawing controlled current from a DC source such as a USB port or DC output wall adapter. In On-The-Go mode this pin provides power to external loads. Bypass VBUS (See Datasheet)", 14 SW (power) "The SW pin transfers power between VBUS to VOUT via the bidirectional switching regulator. See the Applications Information section for a discussion of inductance value and current rating.", 15 ILIM0 (in) "ILIM0 control the VBUS input current limit of the bidirectional PowerPath switching regulator in step-down mode. See Table 1. Each has an internal 1.8uA pull-down current source.", 16 ILIM1 (in) "ILIM1 control the VBUS input current limit of the bidirectional PowerPath switching regulator in step-down mode. See Table 1. Each has an internal 1.8uA pull-down current source.", 17 CLPROG (in) "USB Current Limit Program and Monitor Pin. A 1% resistor from CLPROG to ground determines the upper limit of the current drawn or sourced from the VBUS pin. A precise fraction, hCLPROG, of the VBUS current is sent to the (See Datasheet)", 18 LDO3V3 (power) "3.3V LDO Output Pin. This pin provides a regulated always-on 3.3V supply voltage. LDO3V3 gets its power from VOUT. It may be used for light loads such as a watch dog microprocessor or real time clock. A 1uF capacitor is (See Datasheet)", 19 NTCBIAS "NTC Thermistor Bias Output. If NTC operation is desired, connect a bias resistor between NTCBIAS and NTC, and an NTC thermistor between NTC and GND. To disable NTC operation, connect NTC to GND and leave NTCBIAS open.", 20 NTC (in) "Input to the Thermistor Monitoring Circuits. The NTC pin connects to a negative temperature coefficient thermistor, which is typically co-packaged with the battery, to determine if the battery is too hot or too cold to (See Datasheet)", 21 EP (power) "Ground. The Exposed Pad should be connected to a continuous ground plane on the second layer of the printed circuit board by several vias directly under the LTC4160/LTC4160-1."